# Altium footprint library dV_Diodes_PCBLib.PcbLib: 15 footprints
Each footprint in its own frame and in the unit in brackets; x right, y up, seen from the top. Pads: shape width x height; smd on the part's side, far side on the other; paste and mask are expansions set on the pad; w line width, h text height; cw(c..) or ccw(c..) is an arc to the next point about the centre after c.
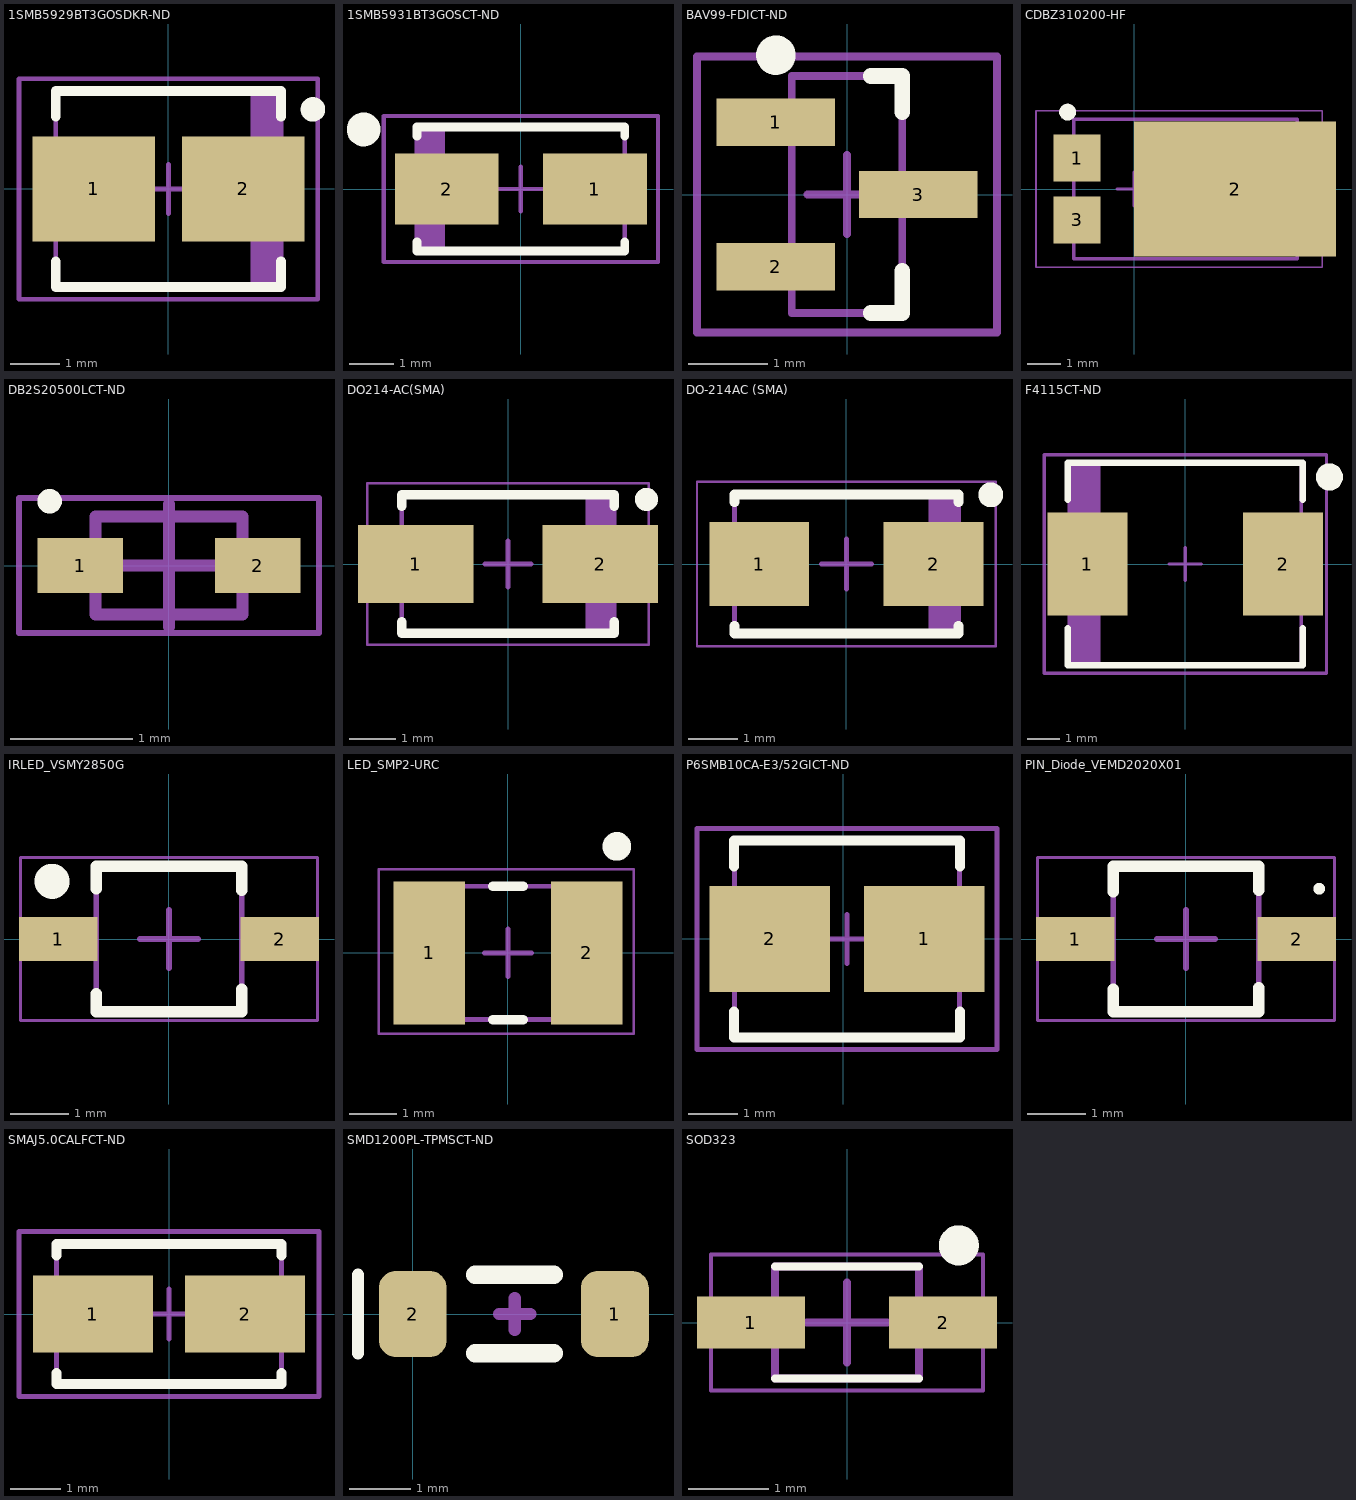
[diagram p0: the footprints below, top view; thin cyan lines are the x and y axes]

## 1SMB5929BT3GOSDKR-ND [mm]
height 2.28
pads (2):
  rect 2.5x2.15 smd: 1(-1.525,0) 2(1.525,0)
Top Overlay:
  circle w0.25: c2.95,1.625 r0.125
  lines w0.2: -2.3,-1.475 -2.3,-2 2.3,-2 2.3,-1.475 ; -2.3,1.475 -2.3,2 2.3,2 2.3,1.475
Mechanical 13:
  rectangle: 1.681,-1.975 2.3,1.975
  lines w0.1: -2.3,-1.975 -2.3,1.975 2.3,1.975 2.3,-1.975 -2.3,-1.975
Mechanical 15:
  lines w0.1: -0.5,0 0.5,0 ; 0,-0.5 0,0.5 ; -3.05,-2.25 -3.05,2.25 3.05,2.25 3.05,-2.25 -3.05,-2.25
3D body: height 2.28, standoff 0, extent -2.3,-1.975 2.3,1.975

## 1SMB5931BT3GOSCT-ND [mm]
height 2
pads (2):
  rect 2.35x1.6 smd: 1(1.675,0) 2(-1.675,0)
Top Overlay:
  circle w0.508: c-3.554,1.346 r0.127
  lines w0.2: -2.35,-1.2 -2.35,-1.4 2.35,-1.4 2.35,-1.2 ; -2.35,1.2 -2.35,1.4 2.35,1.4 2.35,1.2
Mechanical 13:
  rectangle: -2.35,-1.4 -1.718,1.4
  lines w0.1: -2.35,-1.4 -2.35,1.4 2.35,1.4 2.35,-1.4 -2.35,-1.4
Mechanical 15:
  lines w0.1: -0.5,0 0.5,0 ; 0,-0.5 0,0.5 ; -3.1,-1.65 -3.1,1.65 3.1,1.65 3.1,-1.65 -3.1,-1.65
3D body: height 2, standoff 0, extent -2.35,-1.4 2.35,1.4

## BAV99-FDICT-ND [mm]
height 1.2
pads (3):
  rect 1.5x0.6 smd: 1(-0.9,0.915) 2(-0.9,-0.915) 3(0.9,0)
Top Overlay:
  circle w0.25: c-0.9,1.765 r0.125
  lines w0.2: 0.3,-1.5 0.7,-1.5 0.7,-0.965 ; 0.3,1.5 0.7,1.5 0.7,1.041
Mechanical 13:
  lines w0.1: -0.7,-1.5 -0.7,1.5 0.7,1.5 0.7,-1.5 -0.7,-1.5
Mechanical 15:
  lines w0.1: -0.5,0 0.5,0 ; 0,-0.5 0,0.5 ; -1.9,-1.75 -1.9,1.75 1.9,1.75 1.9,-1.75 -1.9,-1.75
3D body: height 1.2, standoff 0.01, extent -0.7,-1.5 0.7,1.5

## CDBZ310200-HF [mm] "TO, 3-Pads, Body 6.43x5.44mm (max), IPC Medium Density"
height 1.35
pads (3):
  rect 1.4x1.39 smd: 1(-1.7,0.92) 3(-1.7,-0.92)
  rect 6x4 smd: 2(3,0)
Top Overlay:
  circle w0.25: c-1.981,2.286 r0.125
Mechanical 13:
  lines w0.1: -1.8,-2.075 4.85,-2.075 4.85,2.075 -1.8,2.075 -1.8,-2.075
Mechanical 15:
  lines w0.05: -2.921,-2.325 5.588,-2.325 5.588,2.325 -2.921,2.325 -2.921,-2.325
  lines w0.1: -0.5,0 0.5,0 ; 0,-0.5 0,0.5
3D body: height 1.35, standoff 0, extent -1.8,-2.075 4.85,2.075

## DB2S20500LCT-ND [mm] "SODFL, 2-Leads, Body 0.80x1.60mm, IPC Medium Density"
height 0.6
pads (2):
  rect 0.7x0.45 smd: 1(-0.725,0) 2(0.725,0)
Top Overlay:
  circle w0.1: c-0.975,0.525 r0.05
Mechanical 13:
  lines w0.1: -0.6,-0.4 0.6,-0.4 0.6,0.4 -0.6,0.4 -0.6,-0.4
Mechanical 15:
  lines w0.05: -1.225,-0.55 1.225,-0.55 1.225,0.55 -1.225,0.55 -1.225,-0.55
  lines w0.1: -0.5,0 0.5,0 ; 0,-0.5 0,0.5
3D body: height 0.6, standoff 0, extent -0.6,-0.4 0.6,0.4

## DO214-AC(SMA) [mm] "Molded Diode, 2-Leads, Body 4.30x2.60mm, IPC Medium Density"
height 2.3
pads (2):
  rect 2.5x1.7 smd: 1(-2,0) 2(2,0)
Top Overlay:
  circle w0.25: c3,1.4 r0.125
  lines w0.2: -2.3,-1.25 -2.3,-1.5 2.3,-1.5 2.3,-1.25 ; -2.3,1.25 -2.3,1.5 2.3,1.5 2.3,1.25
Mechanical 13:
  rectangle: 1.681,-1.46 2.3,1.46
  lines w0.1: -2.3,-1.46 2.3,-1.46 2.3,1.46 -2.3,1.46 -2.3,-1.46
Mechanical 15:
  lines w0.05: -3.05,-1.75 3.05,-1.75 3.05,1.75 -3.05,1.75 -3.05,-1.75
  lines w0.1: -0.5,0 0.5,0 ; 0,-0.5 0,0.5
3D body: height 2.3, standoff 0, extent -2.3,-1.46 2.3,1.46

## DO-214AC (SMA) [mm] "Molded Diode, 2-Leads, Body 4.25x2.67mm, IPC Medium Density"
height 2.29
pads (2):
  rect 2x1.68 smd: 1(-1.75,0) 2(1.75,0)
Top Overlay:
  circle w0.25: c2.9,1.39 r0.125
  lines w0.2: -2.25,-1.24 -2.25,-1.4 2.25,-1.4 2.25,-1.24 ; -2.25,1.24 -2.25,1.4 2.25,1.4 2.25,1.24
Mechanical 13:
  rectangle: 1.645,-1.395 2.25,1.395
  lines w0.1: -2.25,-1.395 -2.25,1.395 2.25,1.395 2.25,-1.395 -2.25,-1.395
Mechanical 15:
  lines w0.05: -3,-1.65 -3,1.65 3,1.65 3,-1.65 -3,-1.65
  lines w0.1: -0.5,0 0.5,0 ; 0,-0.5 0,0.5
3D body: height 2.29, standoff 0, extent -2.25,-1.395 2.25,1.395

## F4115CT-ND [mm]
height 2.6
pads (2):
  rect 2.45x3.15 smd: 1(-3,0) 2(3,0)
Top Overlay:
  circle w0.43: c4.42,2.667 r0.2
  lines w0.2: -3.6,-1.975 -3.6,-3.1 3.6,-3.1 3.6,-1.975 ; -3.6,1.975 -3.6,3.1 3.6,3.1 3.6,1.975
Mechanical 13:
  rectangle: -3.555,-3.1 -2.599,3.1
  lines w0.1: -3.555,-3.1 3.555,-3.1 3.555,3.1 -3.555,3.1 -3.555,-3.1
Mechanical 15:
  lines w0.1: -0.5,0 0.5,0 ; 0,-0.5 0,0.5 ; -4.325,-3.35 4.325,-3.35 4.325,3.35 -4.325,3.35 -4.325,-3.35
3D body: height 2.6, standoff 0, extent -3.555,-3.1 3.555,3.1

## IRLED_VSMY2850G [mm] "SODFL, 2-Leads, Body 2.30x4.20mm, IPC Medium Density"
height 2.97
pads (2):
  rect 1.35x0.75 smd: 1(-1.9,0) 2(1.9,0)
Top Overlay:
  circle w0.5: c-2.007,0.991 r0.05
  lines w0.2: -1.25,-0.94 -1.25,-1.25 1.25,-1.25 1.25,-0.864 ; -1.25,0.864 -1.25,1.25 1.25,1.25 1.25,0.838
Mechanical 13:
  lines w0.1: -1.25,-1.25 1.25,-1.25 1.25,1.25 -1.25,1.25 -1.25,-1.25
Mechanical 15:
  lines w0.05: -2.55,-1.4 2.55,-1.4 2.55,1.4 -2.55,1.4 -2.55,-1.4
  lines w0.1: -0.5,0 0.5,0 ; 0,-0.5 0,0.5
3D body: height 2.8, standoff 1.1, extent -0.842,-0.846 0.85,0.846
3D body: height 1.6, standoff 0, extent -1.25,-1.25 1.25,1.25
3D body: height 1.9, standoff 1.6, extent -0.893,-0.898 0.9,0.898

## LED_SMP2-URC [mm] "Molded Diode, 2-Leads, Body 3.20x2.80mm, IPC Medium Density"
height 2
pads (2):
  rect 1.5x3 smd: 1(-1.65,0) 2(1.65,0)
Top Overlay:
  circle w0.5: c2.286,2.235 r0.05
  lines w0.2: -0.325,-1.4 0.325,-1.4 ; -0.325,1.4 0.325,1.4
Mechanical 13:
  rectangle: 1.17,-1.4 1.6,1.4
  lines w0.1: -1.6,-1.4 1.6,-1.4 1.6,1.4 -1.6,1.4 -1.6,-1.4
Mechanical 15:
  lines w0.05: -2.718,-1.702 2.642,-1.702 2.642,1.753 -2.718,1.753 -2.718,-1.702
  lines w0.1: -0.5,0 0.5,0 ; 0,-0.5 0,0.5
3D body: height 2, standoff 0, extent -1.6,-1.4 1.6,1.4

## P6SMB10CA-E3/52GICT-ND [mm]
pads (2):
  rect 2.45x2.15 smd: 1(1.651,0) 2(-1.499,0)
Top Overlay:
  lines w0.2: -2.224,-1.475 -2.224,-2 2.376,-2 2.376,-1.475 ; -2.224,1.475 -2.224,2 2.376,2 2.376,1.475
Mechanical 13:
  lines w0.1: -2.209,-1.97 -2.209,1.97 2.361,1.97 2.361,-1.97 -2.209,-1.97
Mechanical 15:
  lines w0.1: -0.424,0 0.576,0 ; 0.076,-0.5 0.076,0.5 ; -2.974,-2.25 -2.974,2.25 3.126,2.25 3.126,-2.25 -2.974,-2.25
3D body: height 2.62, standoff 0, extent -2.209,-1.97 2.361,1.97

## PIN_Diode_VEMD2020X01 [mm] "SODFL, 2-Leads, Body 2.30x4.20mm, IPC Medium Density"
height 2.97
pads (2):
  rect 1.35x0.75 smd: 1(-1.9,0) 2(1.9,0)
Top Overlay:
  circle w0.1: c2.286,0.864 r0.05
  lines w0.2: -1.25,-0.864 -1.25,-1.25 1.25,-1.25 1.25,-0.838 ; -1.25,0.813 -1.25,1.25 1.25,1.25 1.25,0.838
Mechanical 13:
  lines w0.1: -1.25,-1.25 1.25,-1.25 1.25,1.25 -1.25,1.25 -1.25,-1.25
Mechanical 15:
  lines w0.05: -2.55,-1.4 2.55,-1.4 2.55,1.4 -2.55,1.4 -2.55,-1.4
  lines w0.1: -0.5,0 0.5,0 ; 0,-0.5 0,0.5
3D body: height 2.8, standoff 1.1, extent -0.842,-0.846 0.85,0.846
3D body: height 1.6, standoff 0, extent -1.25,-1.25 1.25,1.25
3D body: height 1.9, standoff 1.6, extent -0.893,-0.898 0.9,0.898

## SMAJ5.0CALFCT-ND [mm]
height 2.29
pads (2):
  rect 2.4x1.55 smd: 1(-1.525,0) 2(1.525,0)
Top Overlay:
  lines w0.2: -2.25,-1.175 -2.25,-1.4 2.25,-1.4 2.25,-1.175 ; -2.25,1.175 -2.25,1.4 2.25,1.4 2.25,1.175
Mechanical 13:
  lines w0.1: -2.25,-1.395 2.25,-1.395 2.25,1.395 -2.25,1.395 -2.25,-1.395
Mechanical 15:
  lines w0.1: -0.5,0 0.5,0 ; 0,-0.5 0,0.5 ; -3,-1.65 3,-1.65 3,1.65 -3,1.65 -3,-1.65
3D body: height 2.29, standoff 0, extent -2.25,-1.395 2.25,1.395

## SMD1200PL-TPMSCT-ND [mm]
pads (2):
  rrect50% 1.1x1.4 smd: 1(3.277,0) 2(0,0)
Top Overlay:
  lines w0.2: -0.889,-0.635 -0.889,0.635
  lines w0.3: 1.016,-0.635 2.286,-0.635 ; 1.016,0.635 2.286,0.635
Mechanical 15:
  lines w0.2: 1.397,0 1.905,0 ; 1.651,-0.254 1.651,0.254
3D body: height 1.5, standoff 0, extent 0,-0.635 0.762,0.762
3D body: height 1.5, standoff 0, extent 0.762,-0.635 3.302,0.762

## SOD323 [mm] "MMBZ Zener SODFL, 2-Leads, Body 1.30x2.50mm, IPC Medium Density"
height 1.1
pads (2):
  rect 1.35x0.65 smd: 1(-1.2,0) 2(1.2,0)
Top Overlay:
  circle w0.3: c1.397,0.965 r0.1
  lines w0.1: -0.9,-0.7 0.9,-0.7 ; -0.9,0.7 0.9,0.7
Mechanical 13:
  lines w0.1: -0.9,-0.7 -0.9,0.7 0.9,0.7 0.9,-0.7 -0.9,-0.7
Mechanical 15:
  lines w0.05: -1.7,-0.85 -1.7,0.85 1.7,0.85 1.7,-0.85 -1.7,-0.85
  lines w0.1: -0.5,0 0.5,0 ; 0,-0.5 0,0.5
3D body: height 1.1, standoff 0, extent -0.9,-0.7 0.9,0.7